# EAGLE library part C64_USERPORT-CONN (library commodore)
This lib is created by Ruud Baltissen.
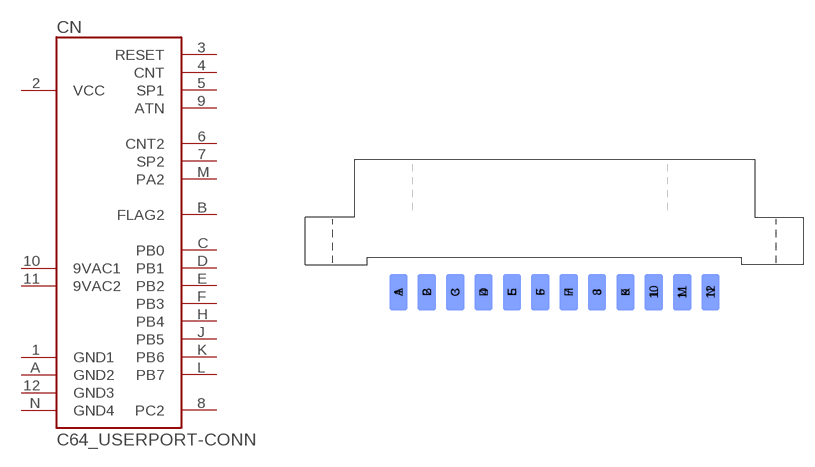
[diagram p31: symbol with the pads of UPS24CONN; footprint UPS24CONN]

Designator prefix CN

## C64_USERPORT-CONN  [UPS24CONN]
1  GND1  pas
2  VCC  pas
3  RESET
4  CNT
5  SP1
6  CNT2
7  SP2
8  PC2
9  ATN
10  9VAC1  out
11  9VAC2  out
12  GND3  pas
A  GND2  pas
B  FLAG2  in
C  PB0
D  PB1
E  PB2
F  PB3
H  PB4
J  PB5
K  PB6
L  PB7
M  PA2
N  GND4  pas

## Footprint UPS24CONN (pad centres in mm)
smd 2.54 x 5.08: 1 -21.779,-1.27; 2 -17.819,-1.27; 3 -13.859,-1.27; 4 -9.899,-1.27; 5 -5.939,-1.27; 6 -1.979,-1.27; 7 1.981,-1.27; 8 5.941,-1.27; 9 9.901,-1.27; 10 13.861,-1.27; 11 17.821,-1.27; 12 21.781,-1.27
smd 2.54 x 5.08 bottom: A -21.779,-1.27; B -17.819,-1.27; C -13.859,-1.27; D -9.899,-1.27; E -5.939,-1.27; F -1.979,-1.27; H 1.981,-1.27; J 5.941,-1.27; K 9.901,-1.27; L 13.861,-1.27; M 17.821,-1.27; N 21.781,-1.27